# Altium schematic symbol library CD4073BE.SchLib: 2 symbols
Pins are listed as number, name and electrical type; pins without a type are passive.

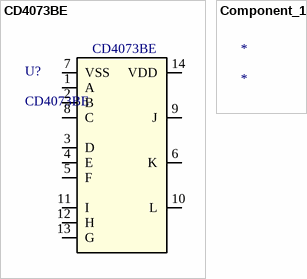
[diagram p0: symbols CD4073BE to Component_1]

## CD4073BE
designator U?
No Description Available; Mfr_Name: Texas Instruments; Copyright: Copyright (C) 2023 Ultra Librarian. All rights reserved.; Manufacturer_Part_Number: CD4073BE; RefDes: RefDes; Type: DEV
footprint N14
pins: 1 A, 2 B, 3 D, 4 E, 5 F, 6 K, 7 VSS (power), 8 C, 9 J, 10 L, 11 I, 12 H, 13 G, 14 VDD (power)

## Component_1
designator *